# EAGLE library part TPS5450 (library ds_ic_vreg)
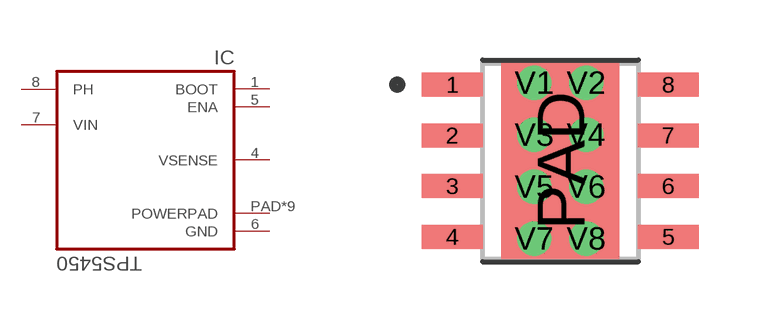
[diagram p3: symbol with the pads of 8-POWERSOIC; footprint 8-POWERSOIC]

Designator prefix IC

## TPS5450 (DATASHEET: https://www.ti.com/general/docs/suppproductinfo.tsp?distId=10&gotoUrl=https%3A%2F%2Fwww.ti.com%2Flit%2Fgpn%2Ftps5450-q1; DESCRIPTION: Step-down type Adjustable 1.221V~31.32V 5A 5.5V~36V SOP-8-EP-150mil DC-DC Converters ROHS; LCSC_PART: C114425; VALUE: TPS5450DDAR)  [8-POWERSOIC]
1  BOOT  in
4  VSENSE  in
5  ENA  in
6  GND  pwr
7  VIN  in
8  PH  out
PAD  POWERPAD
V1  POWERPAD
V2  POWERPAD
V3  POWERPAD
V4  POWERPAD
V5  POWERPAD
V6  POWERPAD
V7  POWERPAD
V8  POWERPAD

## Footprint 8-POWERSOIC (pad centres in mm)
smd 1.55 x 0.6: 1 -2.7,1.905; 2 -2.7,0.635; 3 -2.7,-0.635; 4 -2.7,-1.905; 5 2.7,-1.905; 6 2.7,-0.635; 7 2.7,0.635; 8 2.7,1.905
smd 2.95 x 4.9: PAD 0,0
drill 0.35 pad 0.61: V1 -0.65,1.95; V2 0.65,1.95; V3 -0.65,0.65; V4 0.65,0.65; V5 -0.65,-0.65; V6 0.65,-0.65; V7 -0.65,-1.95; V8 0.65,-1.95